# EAGLE library part DUAL-7-SEGMENT-DISPLAY (library Bock_Parts)
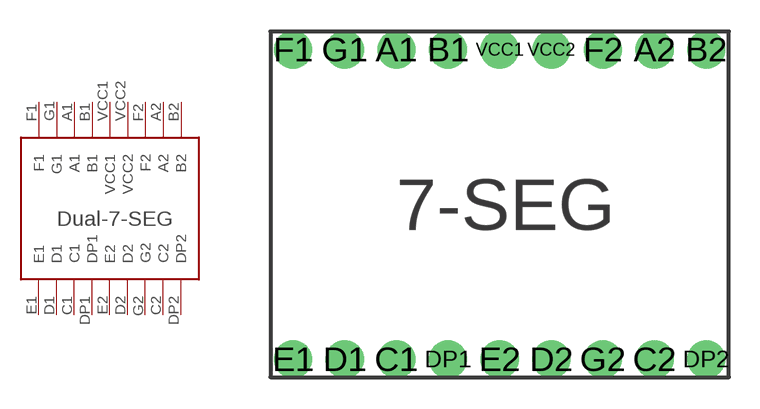
[diagram p1: symbol with the pads of DUAL-7-SEGMENT-DISPLAY; footprint DUAL-7-SEGMENT-DISPLAY]

Designator prefix -

## DUAL-7-SEGMENT-DISPLAY  [DUAL-7-SEGMENT-DISPLAY]
A1  A1
A2  A2
B1  B1
B2  B2
C1  C1
C2  C2
D1  D1
D2  D2
DP1  DP1
DP2  DP2
E1  E1
E2  E2
F1  F1
F2  F2
G1  G1
G2  G2
VCC1  VCC1
VCC2  VCC2

## Footprint DUAL-7-SEGMENT-DISPLAY (pad centres in mm)
drill 0.65 pad 1.88 round: A1 0,7.62; A2 12.7,7.62; B1 2.54,7.62; B2 15.24,7.62; C1 0,-7.62; C2 12.7,-7.62; D1 -2.54,-7.62; D2 7.62,-7.62; DP1 2.54,-7.62; DP2 15.24,-7.62; E1 -5.08,-7.62; E2 5.08,-7.62; F1 -5.08,7.62; F2 10.16,7.62; G1 -2.54,7.62; G2 10.16,-7.62; VCC1 5.08,7.62; VCC2 7.62,7.62